# EAGLE library part AD7992 (library AnalogDevices)
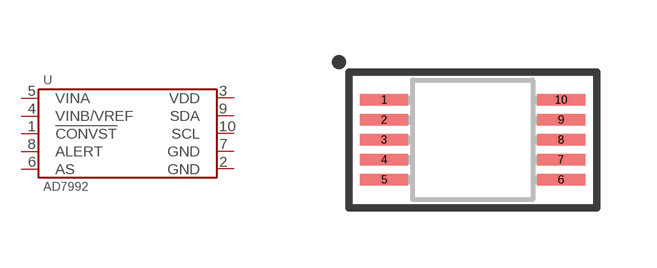
[diagram p10: symbol with the pads of MSOP-10; footprint MSOP-10]

Designator prefix U

## AD7992BRMZ-0  [MSOP-10]
1  !CONVST
2  GND
3  VDD
4  VINB/VREF
5  VINA
6  AS
7  GND
8  ALERT
9  SDA
10  SCL

## Footprint MSOP-10 (pad centres in mm)
smd 1.2 x 0.29: 1 -2.213,1; 2 -2.213,0.5; 3 -2.213,0; 4 -2.213,-0.5; 5 -2.213,-1; 6 2.213,-1; 7 2.213,-0.5; 8 2.213,0; 9 2.213,0.5; 10 2.213,1